# Altium integrated library Chip LED.IntLib: 106 symbols (part 2 of 2)
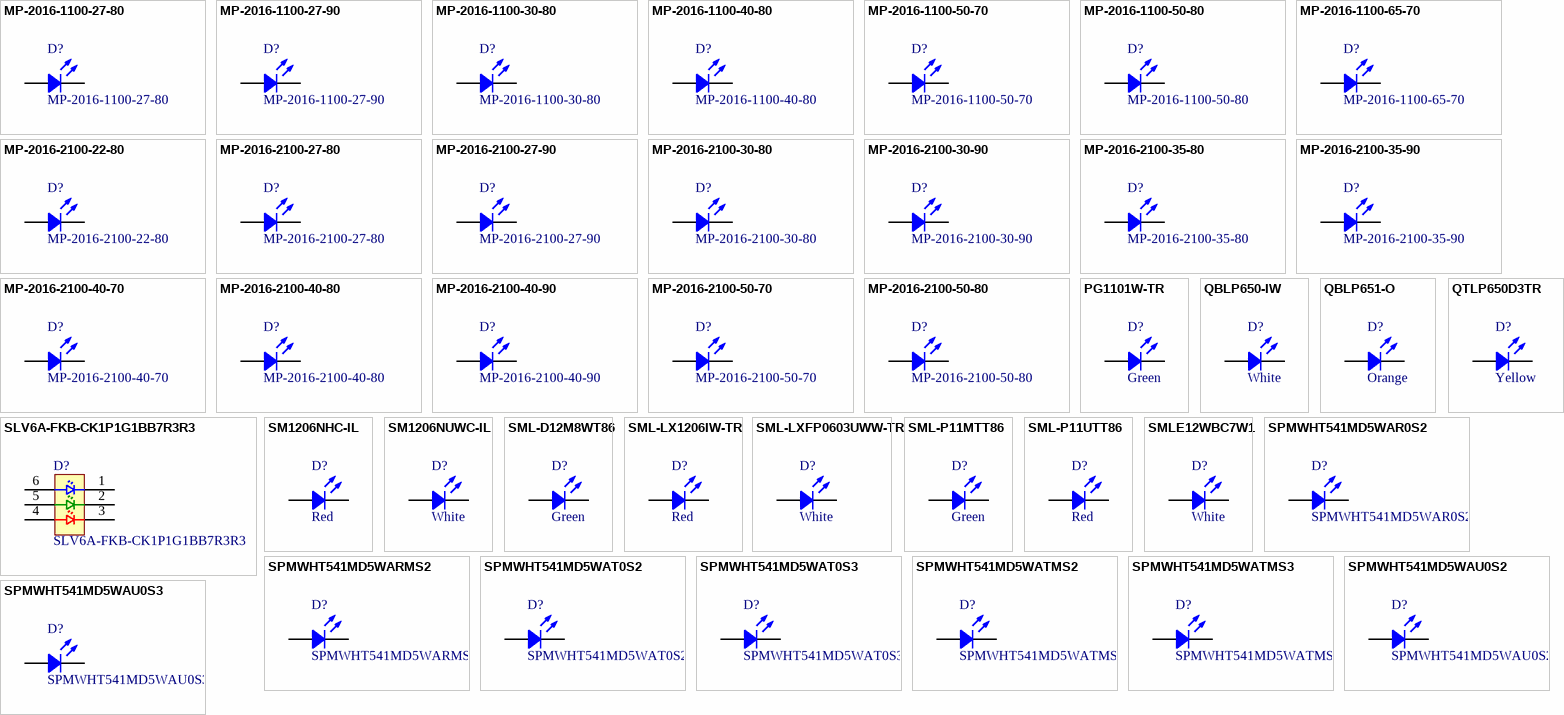
[diagram p3: symbols MP-2016-1100-27-80 to SPMWHT541MD5WAU0S3]

## SML-P11UTT86
designator D?, comment Red
LED RED CLEAR 0402 SMD; Part Number: SML-P11UTT86; Manufacturer: Rohm Semiconductor; Value: Green; Type: Surface Mount; Millicandela: 6.3mcd; Voltage Forward: 1.8V; Current (Test): 1mA; PartId: 7067; Supplier 1: Digi-Key; Supplier Part Number 1: 511-1653-2-ND; ComponentLink1Description: Datasheet; ComponentLink1URL: http://rohmfs.rohm.com/en/products/databook/datasheet/opto/led/chip_mono/sml-p11_p-eco.pdf; ComponentLink2Description: Digi-Key Listing; ComponentLink2URL: http://www.digikey.ca/product-detail/en/SML-P11UTT86/511-1653-2-ND/2036458; Price: 0.0918; Device Package: 0402 (1005 Metric); Colour: Red; Lens Transparency: Clear; Viewing Angle: -
footprint LED 0402/1005 RED
pins: 1, 2

## SMLE12WBC7W1
designator D?, comment White
LED WHITE DIFFUSED 0603 SMD; Part Number: SMLE12WBC7W1; Manufacturer: Rohm Semiconductor; Value: Green; Type: Surface Mount; Millicandela: 71mcd; Voltage Forward: 2.9V; Current (Test): 5mA; PartId: 7056; Supplier 1: Digi-Key; Supplier Part Number 1: 511-1602-2-ND; ComponentLink1Description: Datasheet; ComponentLink1URL: http://rohmfs.rohm.com/en/products/databook/datasheet/opto/led/chip_mono/sml-e1.pdf; ComponentLink2Description: Digi-Key Listing; ComponentLink2URL: http://www.digikey.ca/product-detail/en/SMLE12WBC7W1/511-1602-2-ND/1668976; Price: 0.2904; Device Package: 0603 (1608 Metric); Colour: White; Lens Transparency: Diffused; Viewing Angle: -
footprint LED 0603/1608
pins: 1, 2

## SPMWHT541MD5WAR0S2
designator D?
LED LM561B COOL WHITE 5000K 4SMD; Manufacturer: Samsung Semiconductor, Inc.; Value: Green; Colour: White, Cool; Voltage Forward: 2.95V; Current (Test): 65mA; Viewing Angle: 120; Part Number: SPMWHT541MD5WAR0S2; PartId: 10838; Supplier 1: Digi-Key; Supplier Part Number 1: 1510-1022-2-ND; ComponentLink1Description: Datasheet; ComponentLink1URL: http://www.samsung.com/global/business/business-images/led/file/product/lighting/201504/Data_Sheet_LM561B_Rev.8.0.pdf; ComponentLink2Description: Digi-Key Listing; ComponentLink2URL: https://www.digikey.com/product-detail/en/samsung-semiconductor-inc/SPMWHT541MD5WAR0S2/1510-1022-2-ND/4766204; Price: 0.0946; Device Package: 4-SMD, Flat Lead Exposed Pad
footprint SAMSUNG LM561B
pins: 1, 2

## SPMWHT541MD5WARMS2
designator D?
LED LM561B COOL WHITE 5000K 4SMD; Manufacturer: Samsung Semiconductor, Inc.; Value: Green; Colour: White, Cool; Voltage Forward: 2.95V; Current (Test): 65mA; Viewing Angle: 120; Part Number: SPMWHT541MD5WARMS2; PartId: 10834; Supplier 1: Digi-Key; Supplier Part Number 1: 1510-1023-2-ND; ComponentLink1Description: Datasheet; ComponentLink1URL: http://www.samsung.com/global/business/business-images/led/file/product/lighting/201504/Data_Sheet_LM561B_Rev.8.0.pdf; ComponentLink2Description: Digi-Key Listing; ComponentLink2URL: https://www.digikey.com/product-detail/en/samsung-semiconductor-inc/SPMWHT541MD5WARMS2/1510-1023-2-ND/4766205; Price: 0.0891; Device Package: 4-SMD, Flat Lead Exposed Pad
footprint SAMSUNG LM561B
pins: 1, 2

## SPMWHT541MD5WAT0S2
designator D?
LED LM561B NEU WHITE 4000K 4SMD; Manufacturer: Samsung Semiconductor, Inc.; Value: Green; Colour: White, Neutral; Voltage Forward: 2.95V; Current (Test): 65mA; Viewing Angle: 120; Part Number: SPMWHT541MD5WAT0S2; PartId: 10846; Supplier 1: Digi-Key; Supplier Part Number 1: 1510-1020-2-ND; ComponentLink1Description: Datasheet; ComponentLink1URL: http://www.samsung.com/global/business/business-images/led/file/product/lighting/201504/Data_Sheet_LM561B_Rev.8.0.pdf; ComponentLink2Description: Digi-Key Listing; ComponentLink2URL: https://www.digikey.com/product-detail/en/samsung-semiconductor-inc/SPMWHT541MD5WAT0S2/1510-1020-2-ND/4766202; Price: 0.0946; Device Package: 4-SMD, Flat Lead Exposed Pad
footprint SAMSUNG LM561B
pins: 1, 2

## SPMWHT541MD5WAT0S3
designator D?
LED LM561B NEU WHITE 4000K 4SMD; Manufacturer: Samsung Semiconductor, Inc.; Value: Green; Colour: White, Neutral; Voltage Forward: 2.95V; Current (Test): 65mA; Viewing Angle: 120; Part Number: SPMWHT541MD5WAT0S3; PartId: 10832; Supplier 1: Digi-Key; Supplier Part Number 1: 1510-1030-2-ND; ComponentLink1Description: Datasheet; ComponentLink1URL: http://www.samsung.com/global/business/business-images/led/file/product/lighting/201504/Data_Sheet_LM561B_Rev.8.0.pdf; ComponentLink2Description: Digi-Key Listing; ComponentLink2URL: https://www.digikey.com/product-detail/en/samsung-semiconductor-inc/SPMWHT541MD5WAT0S3/1510-1030-2-ND/4766212; Price: 0.0968; Device Package: 4-SMD, Flat Lead Exposed Pad
footprint SAMSUNG LM561B
pins: 1, 2

## SPMWHT541MD5WATMS2
designator D?
LED LM561B NEU WHITE 4000K 4SMD; Manufacturer: Samsung Semiconductor, Inc.; Value: Green; Colour: White, Neutral; Voltage Forward: 2.95V; Current (Test): 65mA; Viewing Angle: 120; Part Number: SPMWHT541MD5WATMS2; PartId: 10843; Supplier 1: Digi-Key; Supplier Part Number 1: 1510-1021-2-ND; ComponentLink1Description: Datasheet; ComponentLink1URL: http://www.samsung.com/global/business/business-images/led/file/product/lighting/201504/Data_Sheet_LM561B_Rev.8.0.pdf; ComponentLink2Description: Digi-Key Listing; ComponentLink2URL: https://www.digikey.com/product-detail/en/samsung-semiconductor-inc/SPMWHT541MD5WATMS2/1510-1021-2-ND/4766203; Price: 0.093; Device Package: 4-SMD, Flat Lead Exposed Pad
footprint SAMSUNG LM561B
pins: 1, 2

## SPMWHT541MD5WATMS3
designator D?
LED LM561B NEU WHITE 4000K 4SMD; Manufacturer: Samsung Semiconductor, Inc.; Value: Green; Colour: White, Neutral; Voltage Forward: 2.95V; Current (Test): 65mA; Viewing Angle: 120; Part Number: SPMWHT541MD5WATMS3; PartId: 10830; Supplier 1: Digi-Key; Supplier Part Number 1: 1510-1031-2-ND; ComponentLink1Description: Datasheet; ComponentLink1URL: http://www.samsung.com/global/business/business-images/led/file/product/lighting/201504/Data_Sheet_LM561B_Rev.8.0.pdf; ComponentLink2Description: Digi-Key Listing; ComponentLink2URL: https://www.digikey.com/product-detail/en/samsung-semiconductor-inc/SPMWHT541MD5WATMS3/1510-1031-2-ND/4766213; Price: 0.095; Device Package: 4-SMD, Flat Lead Exposed Pad
footprint SAMSUNG LM561B
pins: 1, 2

## SPMWHT541MD5WAU0S2
designator D?
LED LM561B WARM WHITE 3500K 4SMD; Manufacturer: Samsung Semiconductor, Inc.; Value: Green; Colour: White, Warm; Voltage Forward: 2.95V; Current (Test): 65mA; Viewing Angle: 120; Part Number: SPMWHT541MD5WAU0S2; PartId: 10848; Supplier 1: Digi-Key; Supplier Part Number 1: 1510-1018-2-ND; ComponentLink1Description: Datasheet; ComponentLink1URL: http://www.samsung.com/global/business/business-images/led/file/product/lighting/201504/Data_Sheet_LM561B_Rev.8.0.pdf; ComponentLink2Description: Digi-Key Listing; ComponentLink2URL: https://www.digikey.com/product-detail/en/samsung-semiconductor-inc/SPMWHT541MD5WAU0S2/1510-1018-2-ND/4766200; Price: 0.0946; Device Package: 4-SMD, Flat Lead Exposed Pad
footprint SAMSUNG LM561B
pins: 1, 2

## SPMWHT541MD5WAU0S3
designator D?
LED LM561B WARM WHITE 3500K 4SMD; Manufacturer: Samsung Semiconductor, Inc.; Value: Green; Colour: White, Warm; Voltage Forward: 2.95V; Current (Test): 65mA; Viewing Angle: 120; Part Number: SPMWHT541MD5WAU0S3; PartId: 10831; Supplier 1: Digi-Key; Supplier Part Number 1: 1510-1028-2-ND; ComponentLink1Description: Datasheet; ComponentLink1URL: http://www.samsung.com/global/business/business-images/led/file/product/lighting/201504/Data_Sheet_LM561B_Rev.8.0.pdf; ComponentLink2Description: Digi-Key Listing; ComponentLink2URL: https://www.digikey.com/product-detail/en/samsung-semiconductor-inc/SPMWHT541MD5WAU0S3/1510-1028-2-ND/4766210; Price: 0.0968; Device Package: 4-SMD, Flat Lead Exposed Pad
footprint SAMSUNG LM561B
pins: 1, 2

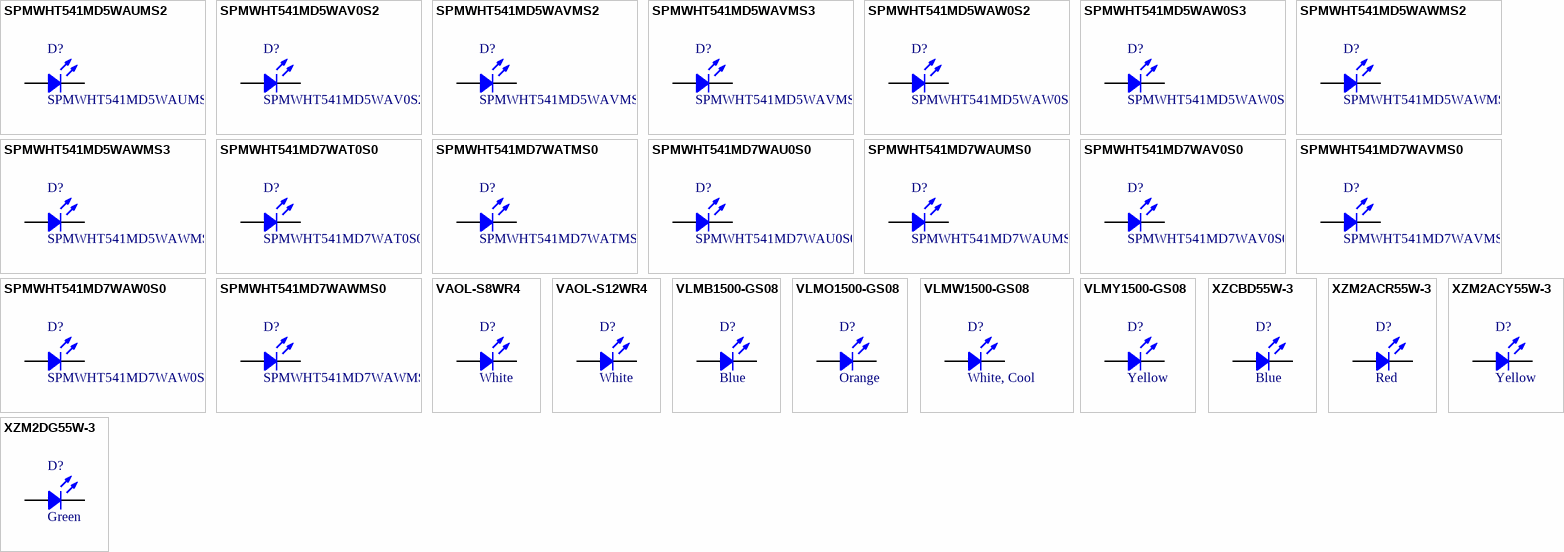
[diagram p2: symbols SPMWHT541MD5WAUMS2 to XZM2DG55W-3]

## SPMWHT541MD5WAUMS2
designator D?
LED LM561B WARM WHITE 3500K 4SMD; Manufacturer: Samsung Semiconductor, Inc.; Value: Green; Colour: White, Warm; Voltage Forward: 2.95V; Current (Test): 65mA; Viewing Angle: 120; Part Number: SPMWHT541MD5WAUMS2; PartId: 10842; Supplier 1: Digi-Key; Supplier Part Number 1: 1510-1019-2-ND; ComponentLink1Description: Datasheet; ComponentLink1URL: http://www.samsung.com/global/business/business-images/led/file/product/lighting/201504/Data_Sheet_LM561B_Rev.8.0.pdf; ComponentLink2Description: Digi-Key Listing; ComponentLink2URL: https://www.digikey.com/product-detail/en/samsung-semiconductor-inc/SPMWHT541MD5WAUMS2/1510-1019-2-ND/4766201; Price: 0.093; Device Package: 4-SMD, Flat Lead Exposed Pad
footprint SAMSUNG LM561B
pins: 1, 2

## SPMWHT541MD5WAV0S2
designator D?
LED LM561B WARM WHITE 3000K 4SMD; Manufacturer: Samsung Semiconductor, Inc.; Value: Green; Colour: White, Warm; Voltage Forward: 2.95V; Current (Test): 65mA; Viewing Angle: 120; Part Number: SPMWHT541MD5WAV0S2; PartId: 10837; Supplier 1: Digi-Key; Supplier Part Number 1: 1510-1016-2-ND; ComponentLink1Description: Datasheet; ComponentLink1URL: http://www.samsung.com/global/business/business-images/led/file/product/lighting/201504/Data_Sheet_LM561B_Rev.8.0.pdf; ComponentLink2Description: Digi-Key Listing; ComponentLink2URL: https://www.digikey.com/product-detail/en/samsung-semiconductor-inc/SPMWHT541MD5WAV0S2/1510-1016-2-ND/4766198; Price: 0.0946; Device Package: 4-SMD, Flat Lead Exposed Pad
footprint SAMSUNG LM561B
pins: 1, 2

## SPMWHT541MD5WAVMS2
designator D?
LED LM561B WARM WHITE 3000K 4SMD; Manufacturer: Samsung Semiconductor, Inc.; Value: Green; Colour: White, Warm; Voltage Forward: 2.95V; Current (Test): 65mA; Viewing Angle: 120; Part Number: SPMWHT541MD5WAVMS2; PartId: 10841; Supplier 1: Digi-Key; Supplier Part Number 1: 1510-1017-2-ND; ComponentLink1Description: Datasheet; ComponentLink1URL: http://www.samsung.com/global/business/business-images/led/file/product/lighting/201504/Data_Sheet_LM561B_Rev.8.0.pdf; ComponentLink2Description: Digi-Key Listing; ComponentLink2URL: https://www.digikey.com/product-detail/en/samsung-semiconductor-inc/SPMWHT541MD5WAVMS2/1510-1017-2-ND/4766199; Price: 0.093; Device Package: 4-SMD, Flat Lead Exposed Pad
footprint SAMSUNG LM561B
pins: 1, 2

## SPMWHT541MD5WAVMS3
designator D?
LED LM561B WARM WHITE 3000K 4SMD; Manufacturer: Samsung Semiconductor, Inc.; Value: Green; Colour: White, Warm; Voltage Forward: 2.95V; Current (Test): 65mA; Viewing Angle: 120; Part Number: SPMWHT541MD5WAVMS3; PartId: 10827; Supplier 1: Digi-Key; Supplier Part Number 1: 1510-1027-2-ND; ComponentLink1Description: Datasheet; ComponentLink1URL: http://www.samsung.com/global/business/business-images/led/file/product/lighting/201504/Data_Sheet_LM561B_Rev.8.0.pdf; ComponentLink2Description: Digi-Key Listing; ComponentLink2URL: https://www.digikey.com/product-detail/en/samsung-semiconductor-inc/SPMWHT541MD5WAVMS3/1510-1027-2-ND/4766209; Price: 0.095; Device Package: 4-SMD, Flat Lead Exposed Pad
footprint SAMSUNG LM561B
pins: 1, 2

## SPMWHT541MD5WAW0S2
designator D?
LED LM561B WARM WHITE 2700K 4SMD; Manufacturer: Samsung Semiconductor, Inc.; Value: Green; Colour: White, Warm; Voltage Forward: 2.95V; Current (Test): 65mA; Viewing Angle: 120; Part Number: SPMWHT541MD5WAW0S2; PartId: 10847; Supplier 1: Digi-Key; Supplier Part Number 1: 1510-1014-2-ND; ComponentLink1Description: Datasheet; ComponentLink1URL: http://www.samsung.com/global/business/business-images/led/file/product/lighting/201504/Data_Sheet_LM561B_Rev.8.0.pdf; ComponentLink2Description: Digi-Key Listing; ComponentLink2URL: https://www.digikey.com/product-detail/en/samsung-semiconductor-inc/SPMWHT541MD5WAW0S2/1510-1014-2-ND/4766196; Price: 0.0946; Device Package: 4-SMD, Flat Lead Exposed Pad
footprint SAMSUNG LM561B
pins: 1, 2

## SPMWHT541MD5WAW0S3
designator D?
LED LM561B WARM WHITE 2700K 4SMD; Manufacturer: Samsung Semiconductor, Inc.; Value: Green; Colour: White, Warm; Voltage Forward: 2.95V; Current (Test): 65mA; Viewing Angle: 120; Part Number: SPMWHT541MD5WAW0S3; PartId: 10849; Supplier 1: Digi-Key; Supplier Part Number 1: 1510-1024-2-ND; ComponentLink1Description: Datasheet; ComponentLink1URL: http://www.samsung.com/global/business/business-images/led/file/product/lighting/201504/Data_Sheet_LM561B_Rev.8.0.pdf; ComponentLink2Description: Digi-Key Listing; ComponentLink2URL: https://www.digikey.com/product-detail/en/samsung-semiconductor-inc/SPMWHT541MD5WAW0S3/1510-1024-2-ND/4766206; Price: 0.0968; Device Package: 4-SMD, Flat Lead Exposed Pad
footprint SAMSUNG LM561B
pins: 1, 2

## SPMWHT541MD5WAWMS2
designator D?
LED LM561B WARM WHITE 2700K 4SMD; Manufacturer: Samsung Semiconductor, Inc.; Value: Green; Colour: White, Warm; Voltage Forward: 2.95V; Current (Test): 65mA; Viewing Angle: 120; Part Number: SPMWHT541MD5WAWMS2; PartId: 10844; Supplier 1: Digi-Key; Supplier Part Number 1: 1510-1015-2-ND; ComponentLink1Description: Datasheet; ComponentLink1URL: http://www.samsung.com/global/business/business-images/led/file/product/lighting/201504/Data_Sheet_LM561B_Rev.8.0.pdf; ComponentLink2Description: Digi-Key Listing; ComponentLink2URL: https://www.digikey.com/product-detail/en/samsung-semiconductor-inc/SPMWHT541MD5WAWMS2/1510-1015-2-ND/4766197; Price: 0.093; Device Package: 4-SMD, Flat Lead Exposed Pad
footprint SAMSUNG LM561B
pins: 1, 2

## SPMWHT541MD5WAWMS3
designator D?
LED LM561B WARM WHITE 2700K 4SMD; Manufacturer: Samsung Semiconductor, Inc.; Value: Green; Colour: White, Warm; Voltage Forward: 2.95V; Current (Test): 65mA; Viewing Angle: 120; Part Number: SPMWHT541MD5WAWMS3; PartId: 10839; Supplier 1: Digi-Key; Supplier Part Number 1: 1510-1025-2-ND; ComponentLink1Description: Datasheet; ComponentLink1URL: http://www.samsung.com/global/business/business-images/led/file/product/lighting/201504/Data_Sheet_LM561B_Rev.8.0.pdf; ComponentLink2Description: Digi-Key Listing; ComponentLink2URL: https://www.digikey.com/product-detail/en/samsung-semiconductor-inc/SPMWHT541MD5WAWMS3/1510-1025-2-ND/4766207; Price: 0.095; Device Package: 4-SMD, Flat Lead Exposed Pad
footprint SAMSUNG LM561B
pins: 1, 2

## SPMWHT541MD7WAT0S0
designator D?
LED LM561B NEU WHITE 4000K 4SMD; Manufacturer: Samsung Semiconductor, Inc.; Value: Green; Colour: White, Neutral; Voltage Forward: 2.95V; Current (Test): 65mA; Viewing Angle: 120; Part Number: SPMWHT541MD7WAT0S0; PartId: 10836; Supplier 1: Digi-Key; Supplier Part Number 1: 1510-1040-2-ND; ComponentLink1Description: Datasheet; ComponentLink1URL: http://www.samsung.com/global/business/business-images/led/file/product/lighting/201402/Data_Sheet_LM561B_High_CRI_Rev.001.pdf; ComponentLink2Description: Digi-Key Listing; ComponentLink2URL: https://www.digikey.com/product-detail/en/samsung-semiconductor-inc/SPMWHT541MD7WAT0S0/1510-1040-2-ND/4766222; Price: 0.093; Device Package: 4-SMD, Flat Lead Exposed Pad
footprint SAMSUNG LM561B
pins: 1, 2

## SPMWHT541MD7WATMS0
designator D?
LED LM561B NEU WHITE 4000K 4SMD; Manufacturer: Samsung Semiconductor, Inc.; Value: Green; Colour: White, Neutral; Voltage Forward: 2.95V; Current (Test): 65mA; Viewing Angle: 120; Part Number: SPMWHT541MD7WATMS0; PartId: 10828; Supplier 1: Digi-Key; Supplier Part Number 1: 1510-1041-2-ND; ComponentLink1Description: Datasheet; ComponentLink1URL: http://www.samsung.com/global/business/business-images/led/file/product/lighting/201402/Data_Sheet_LM561B_High_CRI_Rev.001.pdf; ComponentLink2Description: Digi-Key Listing; ComponentLink2URL: https://www.digikey.com/product-detail/en/samsung-semiconductor-inc/SPMWHT541MD7WATMS0/1510-1041-2-ND/4766223; Price: 0.1029; Device Package: 4-SMD, Flat Lead Exposed Pad
footprint SAMSUNG LM561B
pins: 1, 2

## SPMWHT541MD7WAU0S0
designator D?
LED LM561B WARM WHITE 3500K 4SMD; Manufacturer: Samsung Semiconductor, Inc.; Value: Green; Colour: White, Warm; Voltage Forward: 2.95V; Current (Test): 65mA; Viewing Angle: 120; Part Number: SPMWHT541MD7WAU0S0; PartId: 10835; Supplier 1: Digi-Key; Supplier Part Number 1: 1510-1038-2-ND; ComponentLink1Description: Datasheet; ComponentLink1URL: http://www.samsung.com/global/business/business-images/led/file/product/lighting/201402/Data_Sheet_LM561B_High_CRI_Rev.001.pdf; ComponentLink2Description: Digi-Key Listing; ComponentLink2URL: https://www.digikey.com/product-detail/en/samsung-semiconductor-inc/SPMWHT541MD7WAU0S0/1510-1038-2-ND/4766220; Price: 0.093; Device Package: 4-SMD, Flat Lead Exposed Pad
footprint SAMSUNG LM561B
pins: 1, 2

## SPMWHT541MD7WAUMS0
designator D?
LED LM561B WARM WHITE 3500K 4SMD; Manufacturer: Samsung Semiconductor, Inc.; Value: Green; Colour: White, Warm; Voltage Forward: 2.95V; Current (Test): 65mA; Viewing Angle: 120; Part Number: SPMWHT541MD7WAUMS0; PartId: 10840; Supplier 1: Digi-Key; Supplier Part Number 1: 1510-1039-2-ND; ComponentLink1Description: Datasheet; ComponentLink1URL: http://www.samsung.com/global/business/business-images/led/file/product/lighting/201402/Data_Sheet_LM561B_High_CRI_Rev.001.pdf; ComponentLink2Description: Digi-Key Listing; ComponentLink2URL: https://www.digikey.com/product-detail/en/samsung-semiconductor-inc/SPMWHT541MD7WAUMS0/1510-1039-2-ND/4766221; Price: 0.1029; Device Package: 4-SMD, Flat Lead Exposed Pad
footprint SAMSUNG LM561B
pins: 1, 2

## SPMWHT541MD7WAV0S0
designator D?
LED LM561B WARM WHITE 3000K 4SMD; Manufacturer: Samsung Semiconductor, Inc.; Value: Green; Colour: White, Warm; Voltage Forward: 2.95V; Current (Test): 65mA; Viewing Angle: 120; Part Number: SPMWHT541MD7WAV0S0; PartId: 10845; Supplier 1: Digi-Key; Supplier Part Number 1: 1510-1036-2-ND; ComponentLink1Description: Datasheet; ComponentLink1URL: http://www.samsung.com/global/business/business-images/led/file/product/lighting/201402/Data_Sheet_LM561B_High_CRI_Rev.001.pdf; ComponentLink2Description: Digi-Key Listing; ComponentLink2URL: https://www.digikey.com/product-detail/en/samsung-semiconductor-inc/SPMWHT541MD7WAV0S0/1510-1036-2-ND/4766218; Price: 0.093; Device Package: 4-SMD, Flat Lead Exposed Pad
footprint SAMSUNG LM561B
pins: 1, 2

## SPMWHT541MD7WAVMS0
designator D?
LED LM561B WARM WHITE 3000K 4SMD; Manufacturer: Samsung Semiconductor, Inc.; Value: Green; Colour: White, Warm; Voltage Forward: 2.95V; Current (Test): 65mA; Viewing Angle: 120; Part Number: SPMWHT541MD7WAVMS0; PartId: 10833; Supplier 1: Digi-Key; Supplier Part Number 1: 1510-1037-2-ND; ComponentLink1Description: Datasheet; ComponentLink1URL: http://www.samsung.com/global/business/business-images/led/file/product/lighting/201402/Data_Sheet_LM561B_High_CRI_Rev.001.pdf; ComponentLink2Description: Digi-Key Listing; ComponentLink2URL: https://www.digikey.com/product-detail/en/samsung-semiconductor-inc/SPMWHT541MD7WAVMS0/1510-1037-2-ND/4766219; Price: 0.1029; Device Package: 4-SMD, Flat Lead Exposed Pad
footprint SAMSUNG LM561B
pins: 1, 2

## SPMWHT541MD7WAW0S0
designator D?
LED LM561B WARM WHITE 2700K 4SMD; Manufacturer: Samsung Semiconductor, Inc.; Value: Green; Colour: White, Warm; Voltage Forward: 2.95V; Current (Test): 65mA; Viewing Angle: 120; Part Number: SPMWHT541MD7WAW0S0; PartId: 10826; Supplier 1: Digi-Key; Supplier Part Number 1: 1510-1034-2-ND; ComponentLink1Description: Datasheet; ComponentLink1URL: http://www.samsung.com/global/business/business-images/led/file/product/lighting/201402/Data_Sheet_LM561B_High_CRI_Rev.001.pdf; ComponentLink2Description: Digi-Key Listing; ComponentLink2URL: https://www.digikey.com/product-detail/en/samsung-semiconductor-inc/SPMWHT541MD7WAW0S0/1510-1034-2-ND/4766216; Price: 0.093; Device Package: 4-SMD, Flat Lead Exposed Pad
footprint SAMSUNG LM561B
pins: 1, 2

## SPMWHT541MD7WAWMS0
designator D?
LED LM561B WARM WHITE 2700K 4SMD; Manufacturer: Samsung Semiconductor, Inc.; Value: Green; Colour: White, Warm; Voltage Forward: 2.95V; Current (Test): 65mA; Viewing Angle: 120; Part Number: SPMWHT541MD7WAWMS0; PartId: 10829; Supplier 1: Digi-Key; Supplier Part Number 1: 1510-1035-2-ND; ComponentLink1Description: Datasheet; ComponentLink1URL: http://www.samsung.com/global/business/business-images/led/file/product/lighting/201402/Data_Sheet_LM561B_High_CRI_Rev.001.pdf; ComponentLink2Description: Digi-Key Listing; ComponentLink2URL: https://www.digikey.com/product-detail/en/samsung-semiconductor-inc/SPMWHT541MD7WAWMS0/1510-1035-2-ND/4766217; Price: 0.1029; Device Package: 4-SMD, Flat Lead Exposed Pad
footprint SAMSUNG LM561B
pins: 1, 2

## VAOL-S8WR4
designator D?, comment White
LED WHITE DIFFUSED 0805 SMD; Part Number: VAOL-S8WR4; Manufacturer: Visual Communications Company - VCC; Value: Green; Type: Surface Mount; Millicandela: 50mcd; Voltage Forward: 3V; Current (Test): 5mA; Viewing Angle: 150; PartId: 7086; Supplier 1: Digi-Key; Supplier Part Number 1: VAOL-S8WR4TR-ND; ComponentLink1Description: Datasheet; ComponentLink1URL: http://vcclite.com/_pdf/VAOL-S8WR4-LED-0805-white.pdf; ComponentLink2Description: Digi-Key Listing; ComponentLink2URL: http://www.digikey.ca/product-detail/en/VAOL-S8WR4/VAOL-S8WR4TR-ND/4515729; Price: 0.2614; Device Package: 0805 (2012 Metric); Colour: White; Lens Transparency: Diffused
footprint LED 0805/2012
pins: 1, 2

## VAOL-S12WR4
designator D?, comment White
LED WHITE DIFFUSED 1206 SMD; Part Number: VAOL-S12WR4; Manufacturer: Visual Communications Company - VCC; Value: Green; Type: Surface Mount; Millicandela: 72mcd; Voltage Forward: 2.9V; Current (Test): 5mA; Viewing Angle: 140; PartId: 7102; Supplier 1: Digi-Key; Supplier Part Number 1: VAOL-S12WR4TR-ND; ComponentLink1Description: Datasheet; ComponentLink1URL: http://vcclite.com/_pdf/VAOL-S12WR4-LED-1206-white.pdf; ComponentLink2Description: Digi-Key Listing; ComponentLink2URL: http://www.digikey.ca/product-detail/en/VAOL-S12WR4/VAOL-S12WR4TR-ND/4515720; Price: 0.2807; Device Package: 1206 (3216 Metric); Colour: White; Lens Transparency: Diffused
footprint LED 1206/3216
pins: 1, 2

## VLMB1500-GS08
designator D?, comment Blue
LED BLUE 0402 SMD; Part Number: VLMB1500-GS08; Manufacturer: Vishay Semiconductor Opto Division; Value: Green; Type: Surface Mount; Millicandela: 28.1mcd; Voltage Forward: 2.9V; Current (Test): 5mA; Viewing Angle: 130; PartId: 7072; Supplier 1: Digi-Key; Supplier Part Number 1: VLMB1500-GS08TR-ND; ComponentLink1Description: Datasheet; ComponentLink1URL: http://www.vishay.com/docs/82554/vlmo1500.pdf; ComponentLink2Description: Digi-Key Listing; ComponentLink2URL: http://www.digikey.ca/product-detail/en/VLMB1500-GS08/VLMB1500-GS08TR-ND/3504677; Price: 0.127; Device Package: 0402 (1005 Metric); Colour: Blue; Lens Transparency: -
footprint LED 0402/1005 BLUE
pins: 1, 2

## VLMO1500-GS08
designator D?, comment Orange
LED ORANGE 0402 SMD; Part Number: VLMO1500-GS08; Manufacturer: Vishay Semiconductor Opto Division; Value: Green; Type: Surface Mount; Millicandela: 90mcd; Voltage Forward: 2V; Current (Test): 20mA; Viewing Angle: 130; PartId: 7069; Supplier 1: Digi-Key; Supplier Part Number 1: VLMO1500-GS08TR-ND; ComponentLink1Description: Datasheet; ComponentLink1URL: http://www.vishay.com/docs/82554/vlmo1500.pdf; ComponentLink2Description: Digi-Key Listing; ComponentLink2URL: http://www.digikey.ca/product-detail/en/VLMO1500-GS08/VLMO1500-GS08TR-ND/3504680; Price: 0.1101; Device Package: 0402 (1005 Metric); Colour: Orange; Lens Transparency: -
footprint LED 0402/1005 YELLOW
pins: 1, 2

## VLMW1500-GS08
designator D?, comment White, Cool
LED COOL WHITE 0402 SMD; Part Number: VLMW1500-GS08; Manufacturer: Vishay Semiconductor Opto Division; Value: Green; Type: Surface Mount; Millicandela: 112.5mcd; Voltage Forward: 2.85V; Current (Test): 5mA; Viewing Angle: 130; PartId: 7073; Supplier 1: Digi-Key; Supplier Part Number 1: VLMW1500-GS08TR-ND; ComponentLink1Description: Datasheet; ComponentLink1URL: http://www.vishay.com/docs/82522/vlmw1500.pdf; ComponentLink2Description: Digi-Key Listing; ComponentLink2URL: http://www.digikey.ca/product-detail/en/VLMW1500-GS08/VLMW1500-GS08TR-ND/3504678; Price: 0.1704; Device Package: 0402 (1005 Metric); Colour: White, Cool; Lens Transparency: -
footprint LED 0402/1005
pins: 1, 2

## VLMY1500-GS08
designator D?, comment Yellow
LED YELLOW 0402 SMD; Part Number: VLMY1500-GS08; Manufacturer: Vishay Semiconductor Opto Division; Value: Green; Type: Surface Mount; Millicandela: 104mcd; Voltage Forward: 2V; Current (Test): 20mA; Viewing Angle: 130; PartId: 7068; Supplier 1: Digi-Key; Supplier Part Number 1: VLMY1500-GS08TR-ND; ComponentLink1Description: Datasheet; ComponentLink1URL: http://www.vishay.com/docs/82554/vlmo1500.pdf; ComponentLink2Description: Digi-Key Listing; ComponentLink2URL: http://www.digikey.ca/product-detail/en/VLMY1500-GS08/VLMY1500-GS08TR-ND/3504682; Price: 0.1101; Device Package: 0402 (1005 Metric); Colour: Yellow; Lens Transparency: -
footprint LED 0402/1005 YELLOW
pins: 1, 2

## XZCBD55W-3
designator D?, comment Blue
LED BLUE CLEAR 1206 SMD; Part Number: XZCBD55W-3; Manufacturer: SunLED; Value: Green; Type: Surface Mount; Millicandela: 695mcd; Voltage Forward: 3.3V; Current (Test): 20mA; Viewing Angle: 35; PartId: 7104; Supplier 1: Digi-Key; Supplier Part Number 1: 1497-1120-2-ND; ComponentLink1Description: Datasheet; ComponentLink1URL: http://www.sunledusa.com/products/spec/XZCBD55W-3.pdf; ComponentLink2Description: Digi-Key Listing; ComponentLink2URL: http://www.digikey.ca/product-detail/en/XZCBD55W-3/1497-1120-2-ND/4745750; Price: 0.1822; Device Package: 1206 (3216 Metric); Colour: Blue; Lens Transparency: Clear
footprint LED 1206/3216 BLUE
pins: 1, 2

## XZM2ACR55W-3
designator D?, comment Red
LED RED CLEAR 1206 SMD; Part Number: XZM2ACR55W-3; Manufacturer: SunLED; Value: Green; Type: Surface Mount; Millicandela: 2690mcd; Voltage Forward: 2.2V; Current (Test): 20mA; Viewing Angle: 35; PartId: 7108; Supplier 1: Digi-Key; Supplier Part Number 1: 1497-1149-2-ND; ComponentLink1Description: Datasheet; ComponentLink1URL: http://www.sunledusa.com/products/spec/XZM2ACR55W-3.pdf; ComponentLink2Description: Digi-Key Listing; ComponentLink2URL: http://www.digikey.ca/product-detail/en/XZM2ACR55W-3/1497-1149-2-ND/4745777; Price: 0.3092; Device Package: 1206 (3216 Metric); Colour: Red; Lens Transparency: Clear
footprint LED 1206/3216 RED
pins: 1, 2

## XZM2ACY55W-3
designator D?, comment Yellow
LED YELLOW CLEAR 1206 SMD; Part Number: XZM2ACY55W-3; Manufacturer: SunLED; Value: Green; Type: Surface Mount; Millicandela: 1890mcd; Voltage Forward: 2V; Current (Test): 20mA; Viewing Angle: 35; PartId: 7109; Supplier 1: Digi-Key; Supplier Part Number 1: 1497-1157-2-ND; ComponentLink1Description: Datasheet; ComponentLink1URL: http://www.sunledusa.com/products/spec/XZM2ACY55W-3.pdf; ComponentLink2Description: Digi-Key Listing; ComponentLink2URL: http://www.digikey.ca/product-detail/en/XZM2ACY55W-3/1497-1157-2-ND/4745784; Price: 0.3092; Device Package: 1206 (3216 Metric); Colour: Yellow; Lens Transparency: Clear
footprint LED 1206/3216 YELLOW
pins: 1, 2

## XZM2DG55W-3
designator D?, comment Green
LED GREEN CLEAR 1206 SMD; Part Number: XZM2DG55W-3; Manufacturer: SunLED; Type: Surface Mount; Millicandela: 4190mcd; Voltage Forward: 3.2V; Current (Test): 20mA; Viewing Angle: 35; Value: Green; PartId: 7107; Supplier 1: Digi-Key; Supplier Part Number 1: 1497-1164-2-ND; ComponentLink1Description: Datasheet; ComponentLink1URL: http://www.sunledusa.com/products/spec/XZM2DG55W-3.pdf; ComponentLink2Description: Digi-Key Listing; ComponentLink2URL: http://www.digikey.ca/product-detail/en/XZM2DG55W-3/1497-1164-2-ND/4745568; Price: 0.4478; Device Package: 1206 (3216 Metric); Colour: Green; Lens Transparency: Clear
footprint LED 1206/3216 GREEN
pins: 1, 2